# EAGLE library part 282843-8 (library con-tyco)
TERMINAL BLOCK Buchanan, Euro Style
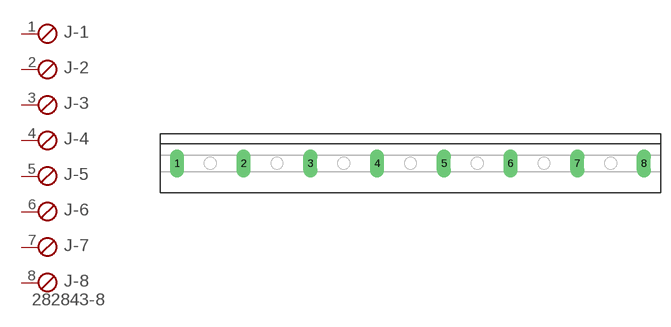
[diagram p2: symbol with the pads of 282843-8; footprint 282843-8]

Designator prefix J; gates -1=SKB -2=SKB -3=SKB -4=SKB -5=SKB -6=SKB -7=SKB -8=SKBV

## 282843-8  [282843-8]
1  -1:1  pas
2  -2:1  pas
3  -3:1  pas
4  -4:1  pas
5  -5:1  pas
6  -6:1  pas
7  -7:1  pas
8  -8:1  pas

## Footprint 282843-8 (pad centres in mm)
TERMINAL BLOCK Pitch 0.400" (10.16mm)
drill 1.422 long: 1 -35.56,0; 2 -25.4,0; 3 -15.24,0; 4 -5.08,0; 5 5.08,0; 6 15.24,0; 7 25.4,0; 8 35.56,0